# Altium schematic symbol library Beckhoff.SchLib: 8 symbols
Pins are listed as number, name and electrical type; pins without a type are passive.

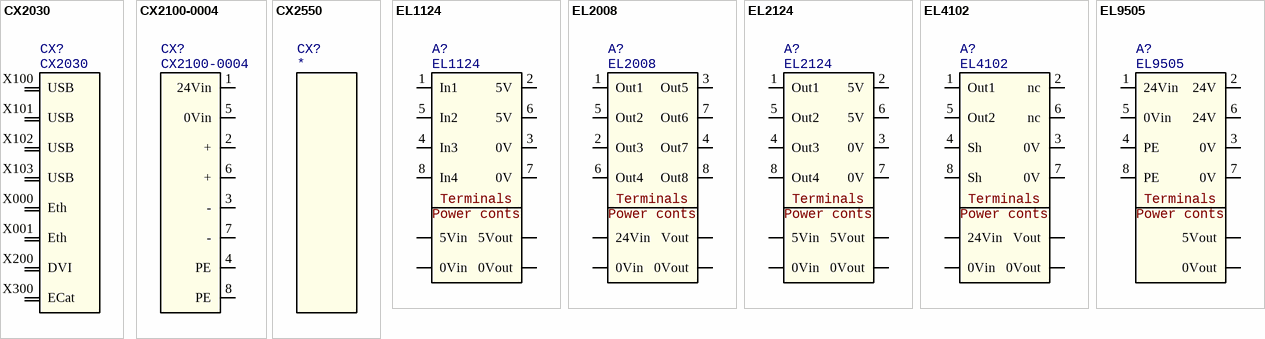
[diagram p0: symbols CX2030 to EL9505]

## CX2030
designator CX?
CPU Module; Manufacturer 1: Beckhoff; Manufacturer Part Number 1: CX2030
pins: X000 Eth, X001 Eth, X100 USB, X101 USB, X102 USB, X103 USB, X200 DVI, X300 ECat

## CX2100-0004
designator CX?
CPU Power Module; Manufacturer 1: Beckhoff; Manufacturer Part Number 1: CX2100-0004
pins: 1 24Vin (power), 2 + (power), 3 - (power), 4 PE, 5 0Vin (power), 6 + (power), 7 - (power), 8 PE

## CX2550
designator CX?
HDD Module; Manufacturer 1: Beckhoff; Manufacturer Part Number 1: CX2550

## EL1124
designator A?
4x Digital In, 5V; Manufacturer 1: Beckhoff; Manufacturer Part Number 1: EL1124
pins: 1 In1, 2 5V (power), 3 0V (power), 4 In3, 5 In2, 6 5V (power), 7 0V (power), 8 In4, 9 5Vin (power), 10 0Vin (power), 11 5Vout (power), 12 0Vout (power)
text: Terminals; Power conts

## EL2008
designator A?
8x Digital Out, 24V; Manufacturer 1: Beckhoff; Manufacturer Part Number 1: EL2008
pins: 1 Out1, 2 Out3 (power), 3 Out5 (power), 4 Out7, 5 Out2, 6 Out4 (power), 7 Out6 (power), 8 Out8, 9 24Vin (power), 10 0Vin (power), 11 Vout (power), 12 0Vout (power)
text: Terminals; Power conts

## EL2124
designator A?
4x Digital Out, 5V; Manufacturer 1: Beckhoff; Manufacturer Part Number 1: EL2124
pins: 1 Out1, 2 5V (power), 3 0V (power), 4 Out3, 5 Out2, 6 5V (power), 7 0V (power), 8 Out4, 9 5Vin (power), 10 0Vin (power), 11 5Vout (power), 12 0Vout (power)
text: Terminals; Power conts

## EL4102
designator A?
2x Analog Out, 0-10V; Manufacturer 1: Beckhoff; Manufacturer Part Number 1: EL4102
pins: 1 Out1, 2 nc (power), 3 0V (power), 4 Sh, 5 Out2, 6 nc (power), 7 0V (power), 8 Sh, 9 24Vin (power), 10 0Vin (power), 11 Vout (power), 12 0Vout (power)
text: Terminals; Power conts

## EL9505
designator A?
Power Supply, 5V; Manufacturer 1: Beckhoff; Manufacturer Part Number 1: EL9505
pins: 1 24Vin (power), 2 24V (power), 3 0V (power), 4 PE, 5 0Vin (power), 6 24V (power), 7 0V (power), 8 PE, 11 5Vout (power), 12 0Vout (power)
text: Terminals; Power conts